# EAGLE library part DS05E (library switch-dil)
DIL/CODE SWITCH
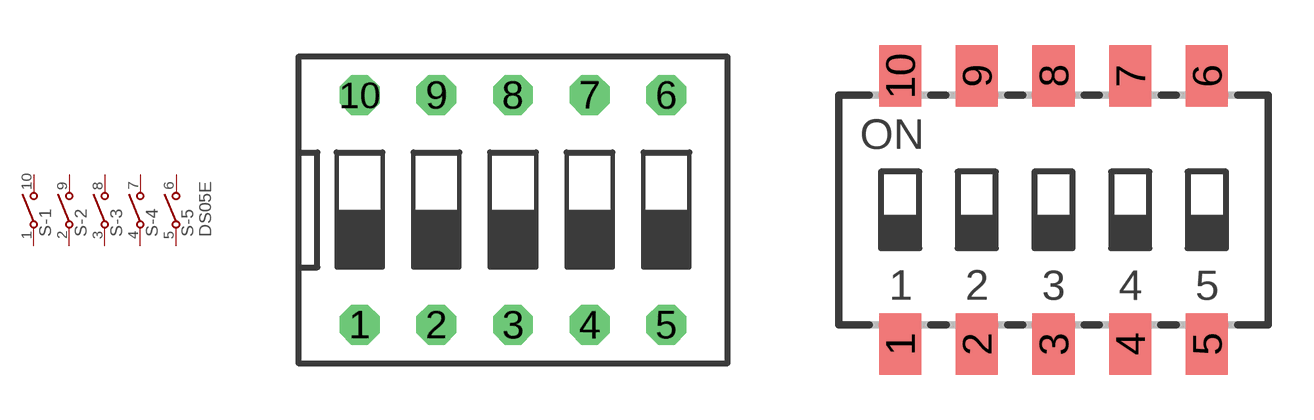
[diagram p11: symbol with the pads of DS-05; footprints DS-05, SDA05SK]

Designator prefix S; gates -1=S -2=S -3=S -4=S -5=S+V

## DS05E  [DS-05]
1  -1:1  pas
2  -2:1  pas
3  -3:1  pas
4  -4:1  pas
5  -5:1  pas
6  -5:2  pas
7  -4:2  pas
8  -3:2  pas
9  -2:2  pas
10  -1:2  pas

## DS05E-SDA05SK  [SDA05SK]
Pads as for DS-05

## DS05E-DA-06  [DA-06]
Pads as for DS-05

## Footprint DS-05 (pad centres in mm)
DIL/CODE SWITCH Mors distributor Buerklin, 17G556
drill 0.813 octagon: 1 -5.08,-3.81; 2 -2.54,-3.81; 3 0,-3.81; 4 2.54,-3.81; 5 5.08,-3.81; 6 5.08,3.81; 7 2.54,3.81; 8 0,3.81; 9 -2.54,3.81; 10 -5.08,3.81

## Footprint SDA05SK (pad centres in mm)
C&K SDA Series
smd 1.397 x 2.032: 1 -5.08,-4.445; 2 -2.54,-4.445; 3 0,-4.445; 4 2.54,-4.445; 5 5.08,-4.445; 6 5.08,4.445; 7 2.54,4.445; 8 0,4.445; 9 -2.54,4.445; 10 -5.08,4.445

## Footprint DA-06 (pad centres in mm)
DIL/CODE SWITCH Mors distributor Buerklin, 17G588
drill 0.813 octagon: 1 -6.35,-1.27; 2 -3.81,-1.27; 3 -1.27,-1.27; 4 1.27,-1.27; 5 3.81,-1.27; 6 6.35,-1.27; 7 6.35,1.27; 8 3.81,1.27; 9 1.27,1.27; 10 -1.27,1.27; 11 -3.81,1.27; 12 -6.35,1.27